# Altium schematic symbol library IC_And_Boards.SchLib: 5 symbols
Pins are listed as number, name and electrical type; pins without a type are passive.

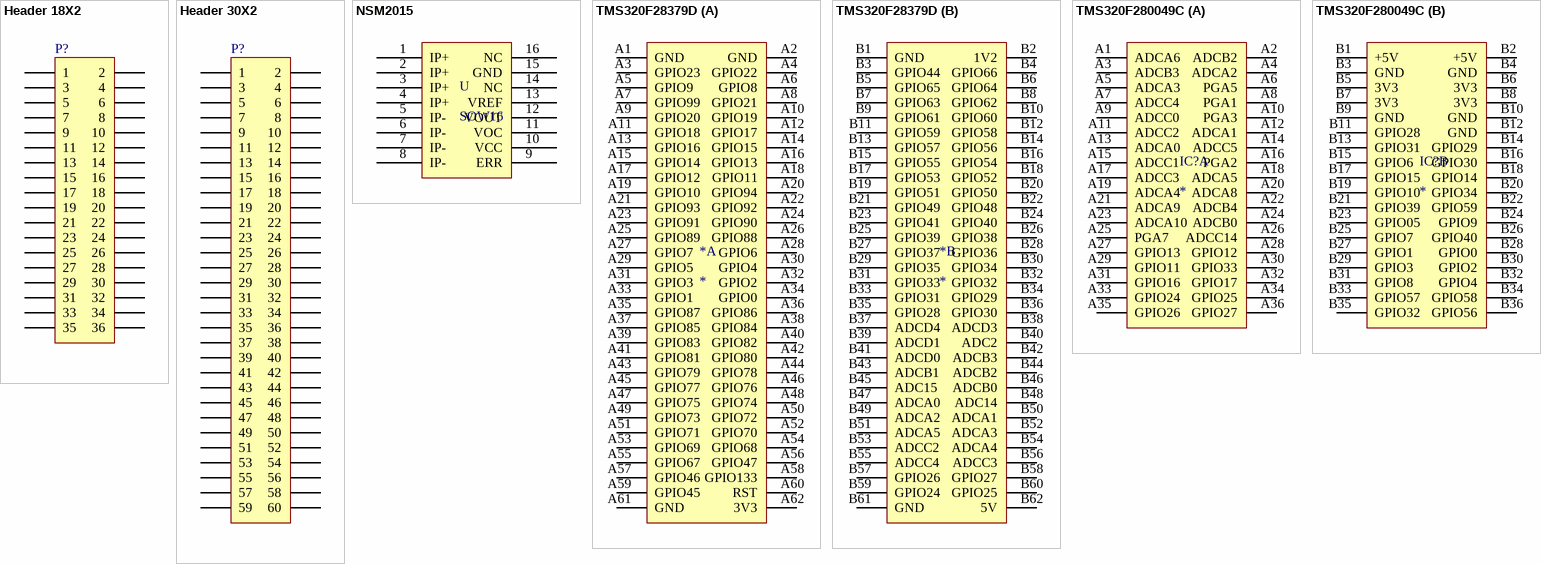
[diagram p0: symbols Header 18X2 to TMS320F280049C]

## Header 18X2
designator P?
Header, 18-Pin, Dual row; LatestRevisionDate: 17-Jul-2002; LatestRevisionNote: Re-released for DXP Platform.; Publisher: Altium Limited
footprint HDR2X18 (Connector; Header; 18x2 Position)
signal-integrity model Connector
pins: 1, 2, 3, 4, 5, 6, 7, 8, 9, 10, 11, 12, 13, 14, 15, 16, 17, 18, 19, 20, 21, 22, 23, 24, 25, 26, 27, 28, 29, 30, 31, 32, 33, 34, 35, 36

## Header 30X2
designator P?
Header, 30-Pin, Dual row; LatestRevisionDate: 17-Jul-2002; LatestRevisionNote: Re-released for DXP Platform.; Publisher: Altium Limited
footprint HDR2X30 (Connector; Header; 30x2 Position)
signal-integrity model Connector
pins: 1, 2, 3, 4, 5, 6, 7, 8, 9, 10, 11, 12, 13, 14, 15, 16, 17, 18, 19, 20, 21, 22, 23, 24, 25, 26, 27, 28, 29, 30, 31, 32, 33, 34, 35, 36, 37, 38, 39, 40, 41, 42, 43, 44, 45, 46, 47, 48, 49, 50, 51, 52, 53, 54, 55, 56, 57, 58, 59, 60

## NSM2015
designator U, comment SOW16
pins: 1 IP+, 2 IP+, 3 IP+, 4 IP+, 5 IP-, 6 IP-, 7 IP-, 8 IP-, 9 ERR, 10 VCC, 11 VOC, 12 VOUT, 13 VREF, 14 NC, 15 GND, 16 NC

## TMS320F28379D
designator *
part A pins: A1 GND, A2 GND, A3 GPIO23, A4 GPIO22, A5 GPIO9, A6 GPIO8, A7 GPIO99, A8 GPIO21, A9 GPIO20, A10 GPIO19, A11 GPIO18, A12 GPIO17, A13 GPIO16, A14 GPIO15, A15 GPIO14, A16 GPIO13, A17 GPIO12, A18 GPIO11, A19 GPIO10, A20 GPIO94, A21 GPIO93, A22 GPIO92, A23 GPIO91, A24 GPIO90, A25 GPIO89, A26 GPIO88, A27 GPIO7, A28 GPIO6, A29 GPIO5, A30 GPIO4, A31 GPIO3, A32 GPIO2, A33 GPIO1, A34 GPIO0, A35 GPIO87, A36 GPIO86, A37 GPIO85, A38 GPIO84, A39 GPIO83, A40 GPIO82, A41 GPIO81, A42 GPIO80, A43 GPIO79, A44 GPIO78, A45 GPIO77, A46 GPIO76, A47 GPIO75, A48 GPIO74, A49 GPIO73, A50 GPIO72, A51 GPIO71, A52 GPIO70, A53 GPIO69, A54 GPIO68, A55 GPIO67, A56 GPIO47, A57 GPIO46, A58 GPIO133, A59 GPIO45, A60 RST, A61 GND, A62 3V3
part B pins: B1 GND, B2 1V2, B3 GPIO44, B4 GPIO66, B5 GPIO65, B6 GPIO64, B7 GPIO63, B8 GPIO62, B9 GPIO61, B10 GPIO60, B11 GPIO59, B12 GPIO58, B13 GPIO57, B14 GPIO56, B15 GPIO55, B16 GPIO54, B17 GPIO53, B18 GPIO52, B19 GPIO51, B20 GPIO50, B21 GPIO49, B22 GPIO48, B23 GPIO41, B24 GPIO40, B25 GPIO39, B26 GPIO38, B27 GPIO37, B28 GPIO36, B29 GPIO35, B30 GPIO34, B31 GPIO33, B32 GPIO32, B33 GPIO31, B34 GPIO29, B35 GPIO28, B36 GPIO30, B37 ADCD4, B38 ADCD3, B39 ADCD1, B40 ADC2, B41 ADCD0, B42 ADCB3, B43 ADCB1, B44 ADCB2, B45 ADC15, B46 ADCB0, B47 ADCA0, B48 ADC14, B49 ADCA2, B50 ADCA1, B51 ADCA5, B52 ADCA3, B53 ADCC2, B54 ADCA4, B55 ADCC4, B56 ADCC3, B57 GPIO26, B58 GPIO27, B59 GPIO24, B60 GPIO25, B61 GND, B62 5V

## TMS320F280049C
designator IC?
part A pins: A1 ADCA6, A2 ADCB2, A3 ADCB3, A4 ADCA2, A5 ADCA3, A6 PGA5, A7 ADCC4, A8 PGA1, A9 ADCC0, A10 PGA3, A11 ADCC2, A12 ADCA1, A13 ADCA0, A14 ADCC5, A15 ADCC1, A16 PGA2, A17 ADCC3, A18 ADCA5, A19 ADCA4, A20 ADCA8, A21 ADCA9, A22 ADCB4, A23 ADCA10, A24 ADCB0, A25 PGA7, A26 ADCC14, A27 GPIO13, A28 GPIO12, A29 GPIO11, A30 GPIO33, A31 GPIO16, A32 GPIO17, A33 GPIO24, A34 GPIO25, A35 GPIO26, A36 GPIO27
part B pins: B1 +5V, B2 +5V, B3 GND, B4 GND, B5 3V3, B6 3V3, B7 3V3, B8 3V3, B9 GND, B10 GND, B11 GPIO28, B12 GND, B13 GPIO31, B14 GPIO29, B15 GPIO6, B16 GPIO30, B17 GPIO15, B18 GPIO14, B19 GPIO10, B20 GPIO34, B21 GPIO39, B22 GPIO59, B23 GPIO05, B24 GPIO9, B25 GPIO7, B26 GPIO40, B27 GPIO1, B28 GPIO0, B29 GPIO3, B30 GPIO2, B31 GPIO8, B32 GPIO4, B33 GPIO57, B34 GPIO58, B35 GPIO32, B36 GPIO56